# EAGLE library part 74LV164D-SHIFT_REGISTER (library OddsBooster)
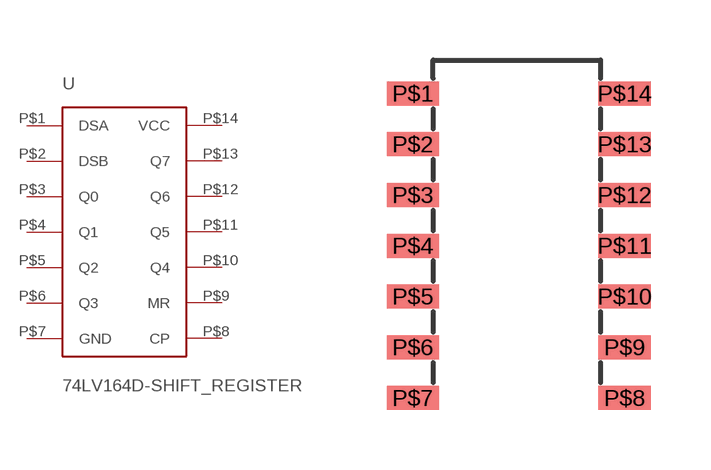
[diagram p1: symbol with the pads of 74LV164D-SHIFT_REGISTER; footprint 74LV164D-SHIFT_REGISTER]

Designator prefix U

## 74LV164D-SHIFT_REGISTER  [74LV164D-SHIFT_REGISTER]
P$1  DSA
P$2  DSB
P$3  Q0
P$4  Q1
P$5  Q2
P$6  Q3
P$7  GND
P$8  CP
P$9  MR
P$10  Q4
P$11  Q5
P$12  Q6
P$13  Q7
P$14  VCC

## Footprint 74LV164D-SHIFT_REGISTER (pad centres in mm)
smd 1.3 x 0.6: P$1 0,0; P$2 0,-1.27; P$3 0,-2.54; P$4 0,-3.81; P$5 0,-5.08; P$6 0,-6.35; P$7 0,-7.62; P$8 5.3,-7.62; P$9 5.3,-6.35; P$10 5.3,-5.08; P$11 5.3,-3.81; P$12 5.3,-2.54; P$13 5.3,-1.27; P$14 5.3,0